# EAGLE library part 16F876 (library -redpic-microchip-pic)
Microchip PIC 16F876
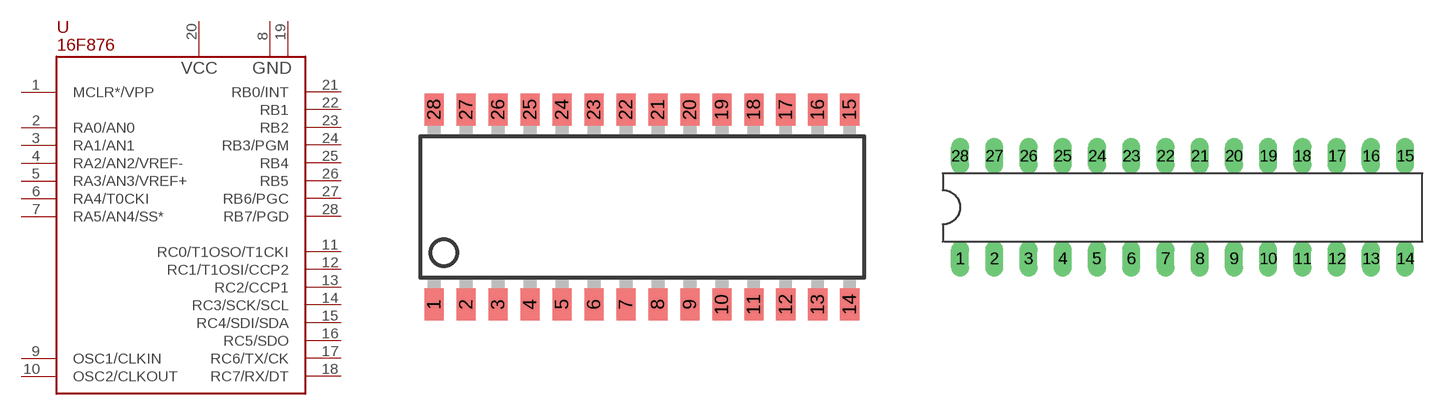
[diagram p1: symbol with the pads of S0-28; footprints S0-28, DIL28-3]

Designator prefix U

## 16F876SO  [S0-28]
1  MCLR*/VPP
2  RA0/AN0
3  RA1/AN1
4  RA2/AN2/VREF-
5  RA3/AN3/VREF+
6  RA4/T0CKI
7  RA5/AN4/SS*
8  GND  sup
9  OSC1/CLKIN
10  OSC2/CLKOUT
11  RC0/T1OSO/T1CKI
12  RC1/T1OSI/CCP2
13  RC2/CCP1
14  RC3/SCK/SCL
15  RC4/SDI/SDA
16  RC5/SDO
17  RC6/TX/CK
18  RC7/RX/DT
19  GND  sup
20  VCC  pwr
21  RB0/INT
22  RB1
23  RB2
24  RB3/PGM
25  RB4
26  RB5
27  RB6/PGC
28  RB7/PGD

## 16F876SP  [DIL28-3]
Pads as for S0-28

## Footprint S0-28 (pad centres in mm)
Small Outline Wide Plastic Gull Wing 300-mil body, package type SO
smd 0.762 x 1.27: 1 -7.62,-5.207; 2 -6.35,-5.207; 3 -5.08,-5.207; 4 -3.81,-5.207; 5 -2.54,-5.207; 6 -1.27,-5.207; 7 0,-5.207; 8 1.27,-5.207; 9 2.54,-5.207; 10 3.81,-5.207; 11 5.08,-5.207; 12 6.35,-5.207; 13 7.62,-5.207; 14 8.89,-5.207; 15 8.89,2.54; 16 7.62,2.54; 17 6.35,2.54; 18 5.08,2.54; 19 3.81,2.54; 20 2.54,2.54; 21 1.27,2.54; 22 0,2.54; 23 -1.27,2.54; 24 -2.54,2.54; 25 -3.81,2.54; 26 -5.08,2.54; 27 -6.35,2.54; 28 -7.62,2.54

## Footprint DIL28-3 (pad centres in mm)
Dual In Line package type P
drill 0.813 long: 1 -16.51,-3.81; 2 -13.97,-3.81; 3 -11.43,-3.81; 4 -8.89,-3.81; 5 -6.35,-3.81; 6 -3.81,-3.81; 7 -1.27,-3.81; 8 1.27,-3.81; 9 3.81,-3.81; 10 6.35,-3.81; 11 8.89,-3.81; 12 11.43,-3.81; 13 13.97,-3.81; 14 16.51,-3.81; 15 16.51,3.81; 16 13.97,3.81; 17 11.43,3.81; 18 8.89,3.81; 19 6.35,3.81; 20 3.81,3.81; 21 1.27,3.81; 22 -1.27,3.81; 23 -3.81,3.81; 24 -6.35,3.81; 25 -8.89,3.81; 26 -11.43,3.81; 27 -13.97,3.81; 28 -16.51,3.81